# EAGLE library part OPAMP82CP (library custom_a)
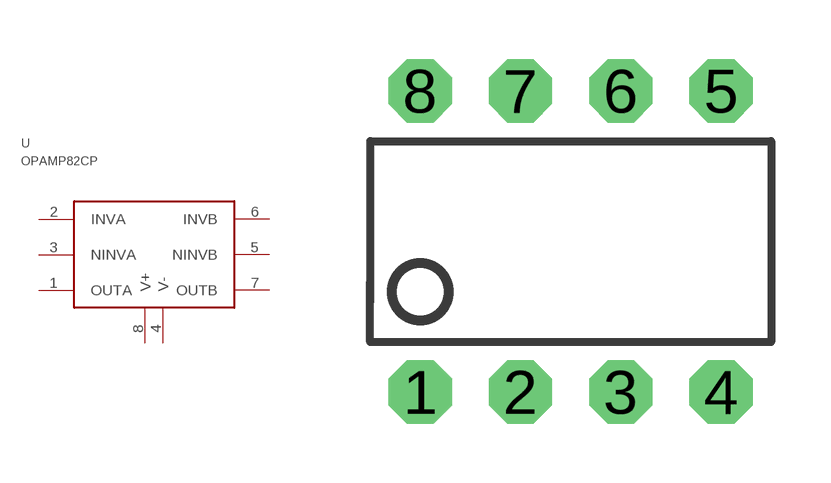
[diagram p0: symbol with the pads of DIP08; footprint DIP08]

Designator prefix -

## OPAMP82CP  [DIP08]
1  OUTA
2  INVA
3  NINVA
4  V-
5  NINVB
6  INVB
7  OUTB
8  V+

## Footprint DIP08 (pad centres in mm)
drill 0.813 pad 1.6 octagon: 1 -3.81,-2.54; 2 -1.27,-2.54; 3 1.27,-2.54; 4 3.81,-2.54; 5 3.81,5.08; 6 1.27,5.08; 7 -1.27,5.08; 8 -3.81,5.08